# EAGLE library part TPS55340 (library Custom_old)
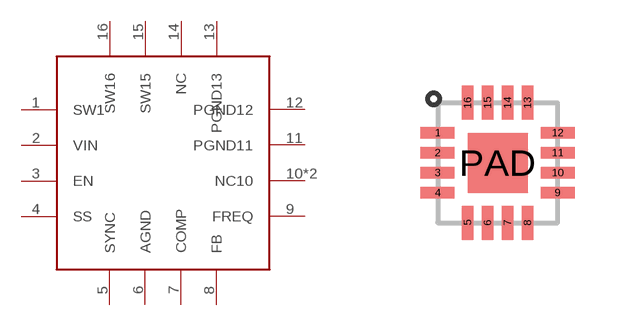
[diagram p19: symbol with the pads of QFN16; footprint QFN16]

Designator prefix -

## TPS55340  [QFN16]
1  SW1
2  VIN
3  EN
4  SS
5  SYNC
6  AGND
7  COMP
8  FB
9  FREQ
10  NC10
11  PGND11
12  PGND12
13  PGND13
14  NC
15  SW15
16  SW16
PAD  NC10

## Footprint QFN16 (pad centres in mm)
smd 0.85 x 0.28: 1 -1.5,0.75; 2 -1.5,0.25; 3 -1.5,-0.25; 4 -1.5,-0.75; 9 1.5,-0.75; 10 1.5,-0.25; 11 1.5,0.25; 12 1.5,0.75
smd 0.28 x 0.85: 5 -0.75,-1.5; 6 -0.25,-1.5; 7 0.25,-1.5; 8 0.75,-1.5; 13 0.75,1.5; 14 0.25,1.5; 15 -0.25,1.5; 16 -0.75,1.5
smd 1.5 x 1.5: PAD 0,0